# Altium footprint library Fiducial-0.5mm.PcbLib: 1 footprints
Each footprint in its own frame and in the unit in brackets; x right, y up, seen from the top. Pads: shape width x height; smd on the part's side, far side on the other; paste and mask are expansions set on the pad; w line width, h text height; cw(c..) or ccw(c..) is an arc to the next point about the centre after c.
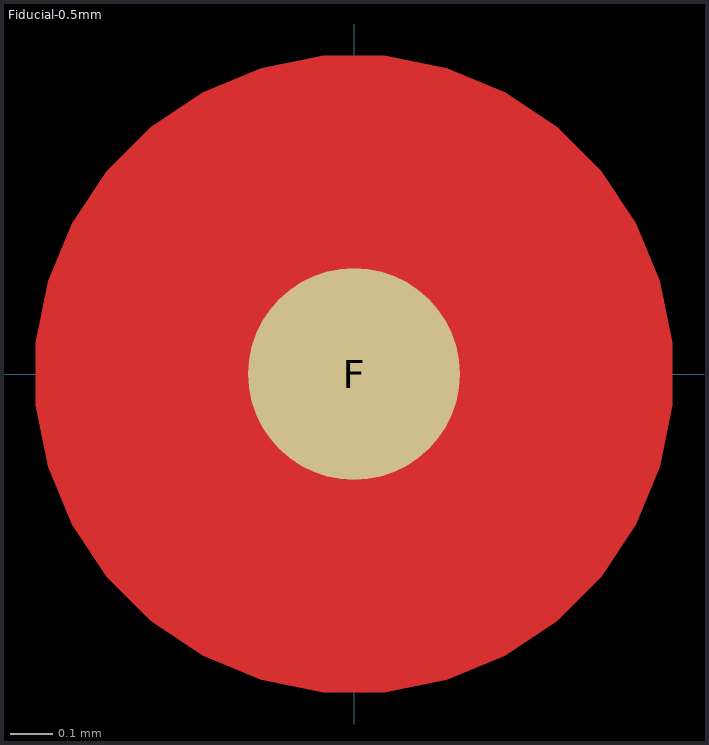
[diagram p0: the footprint, top view; thin cyan lines are the x and y axes]

## Fiducial-0.5mm [mm]
pads (1):
  round 0.5 smd paste-1 mask+0.5: F(0,0)
Top Layer:
  pour cut-out: -0.75,0 -0.75,0.074 -0.721,0.219 -0.665,0.355 -0.583,0.478 -0.478,0.583 -0.355,0.665 -0.219,0.721 -0.074,0.75 0,0.75 0.074,0.75 0.219,0.721 0.355,0.665 0.478,0.583 0.583,0.478 0.665,0.355 0.721,0.219 0.75,0.074 0.75,0 0.75,-0.074 0.721,-0.219 0.665,-0.355 0.583,-0.478 0.478,-0.583 0.355,-0.665 0.219,-0.721 0.074,-0.75 0,-0.75 -0.074,-0.75 -0.219,-0.721 -0.355,-0.665 -0.478,-0.583 -0.583,-0.478 -0.665,-0.355 -0.721,-0.219 -0.75,-0.074
  pour cut-out: 0,0